# Altium schematic symbol library AZ.SchLib: 1 symbol
Pins are listed as number, name and electrical type; pins without a type are passive.

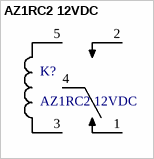
[diagram p0: symbol AZ1RC2 12VDC]

## AZ1RC2 12VDC
designator K?
Relê Miniatura Metaltex AZ1RC2 12VDC; Corrente máxima de chaveamento: 10A; Notes: 1 contato reversível para 10A; Resistência do contato: 50 mOhms máx.; Resistência bobina: 400; Tensão máxima de chaveamento: *; ComponentLink1Description: Datasheet; ComponentLink1URL: https://www.eletrodex.com.br/upload/download/index/upload/1432/
footprint PCBComponent_1
pins: 1, 2, 3, 4, 5